# EAGLE library part 1571983-9 (library Switches)
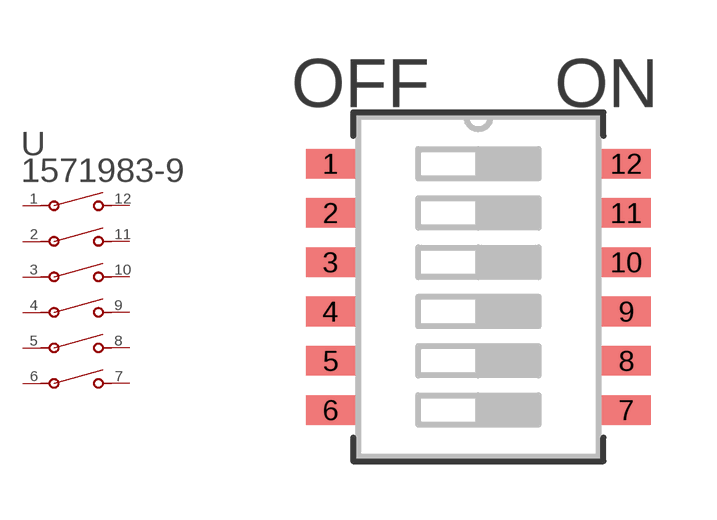
[diagram p7: symbol with the pads of SWSO12_300X100P50B; footprint SWSO12_300X100P50B]

Designator prefix U

## 1571983-9 (BUILT_BY: EMA_UL_Team; CATEGORY: DIP & SIP Switches; COPYRIGHT: Copyright (C) 2016 Accelerated Designs. All rights reserved; DESCRIPTION: GDH06STR04=DIP SWITCH; MANUFACTURER_PART_NUMBER: 1571983-9; PART_STATUS: active; SERIES: Unknown; VENDOR: TE Connectivity)  [SWSO12_300X100P50B]
1  1  pas
2  2  pas
3  3  pas
4  4  pas
5  5  pas
6  6  pas
7  7  pas
8  8  pas
9  9  pas
10  10  pas
11  11  pas
12  12  pas

## Footprint SWSO12_300X100P50B (pad centres in mm)
smd 1.27 x 0.762: 1 -3.81,3.175; 2 -3.81,1.905; 3 -3.81,0.635; 4 -3.81,-0.635; 5 -3.81,-1.905; 6 -3.81,-3.175; 7 3.81,-3.175; 8 3.81,-1.905; 9 3.81,-0.635; 10 3.81,0.635; 11 3.81,1.905; 12 3.81,3.175